# Altium footprint library SOT91P240X115-3N.PcbLib: 1 footprints
Each footprint in its own frame and in the unit in brackets; x right, y up, seen from the top. Pads: shape width x height; smd on the part's side, far side on the other; paste and mask are expansions set on the pad; w line width, h text height; cw(c..) or ccw(c..) is an arc to the next point about the centre after c.
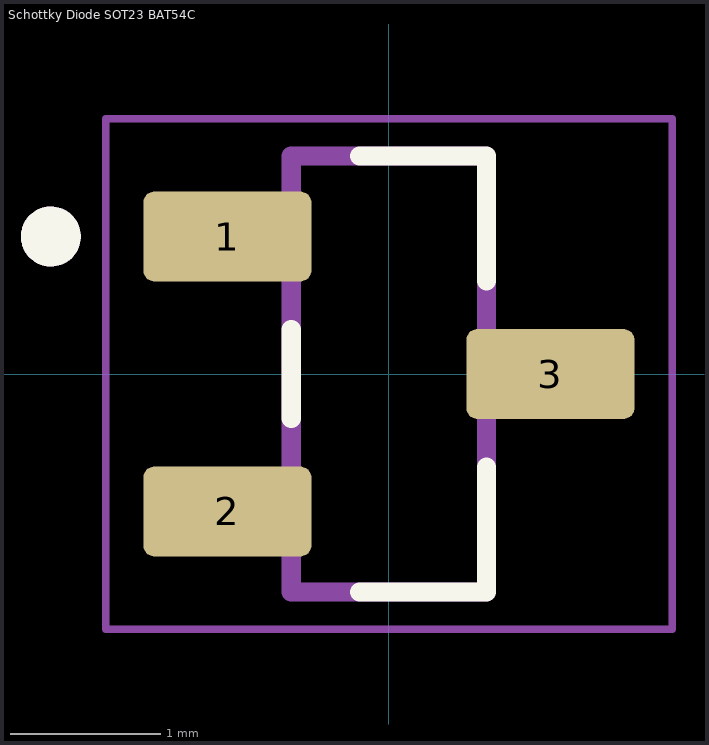
[diagram p0: the footprint, top view; thin cyan lines are the x and y axes]

## Schottky Diode SOT23 BAT54C [mm] "Schottky Diode SOT23 BAT54C"
height 1.15
pads (3):
  rrect25% 1.12x0.6 smd: 1(-1.075,0.915) 2(-1.075,-0.915) 3(1.075,0)
Top Overlay:
  circle w0.2: c-2.25,0.915 r0.1
  lines w0.127: -0.65,-0.295 -0.65,0.295 ; -0.195,-1.45 0.65,-1.45 0.65,-0.62 ; -0.195,1.45 0.65,1.45 0.65,0.62
Assembly Top:
  circle w0.2: c-2.25,0.915 r0.1
  lines w0.127: -0.65,-1.45 0.65,-1.45 0.65,1.45 -0.65,1.45 -0.65,-1.45
Courtyard Top:
  lines w0.05: -1.885,-1.7 1.885,-1.7 1.885,1.7 -1.885,1.7 -1.885,-1.7
3D body "step_temp.STEP": height 1.14, standoff 0, extent -1.2,-1.45 1.2,1.45